# EAGLE library part ADS5204 (library kamiki)
Dual 10-Bit 40MSPS Low-Power Analog-to-Digital Converter
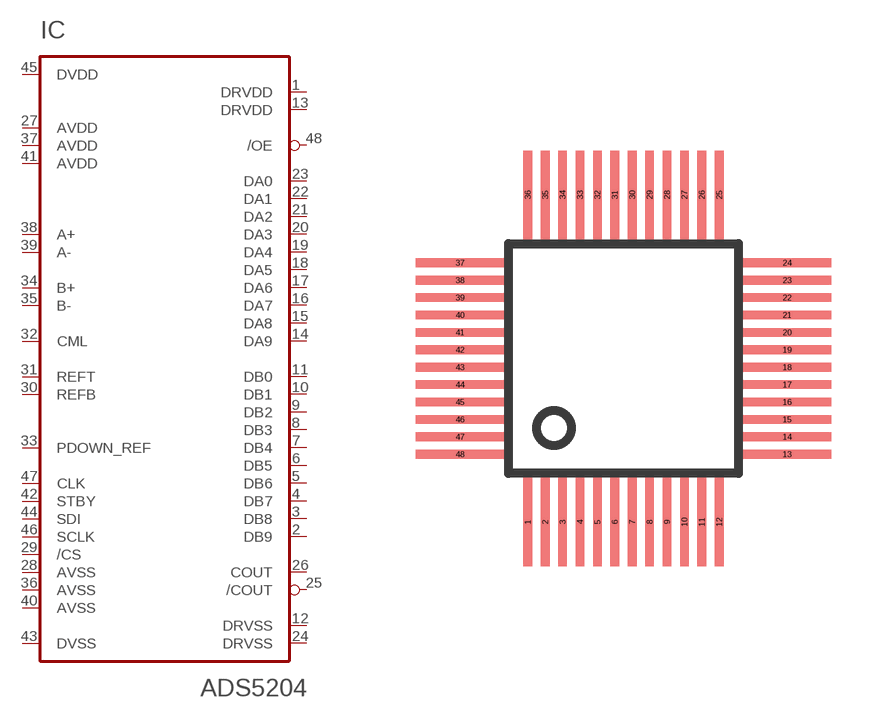
[diagram p10: symbol with the pads of TQFP48_7X7; footprint TQFP48_7X7]

Designator prefix IC

## ADS5204  [TQFP48_7X7]
1  DRVDD  pwr
2  DB9  hiz
3  DB8  hiz
4  DB7  hiz
5  DB6  hiz
6  DB5  hiz
7  DB4  hiz
8  DB3  hiz
9  DB2  hiz
10  DB1  hiz
11  DB0  hiz
12  DRVSS  pwr
13  DRVDD  pwr
14  DA9  hiz
15  DA8  hiz
16  DA7  hiz
17  DA6  hiz
18  DA5  hiz
19  DA4  hiz
20  DA3  hiz
21  DA2  hiz
22  DA1  hiz
23  DA0  hiz
24  DRVSS  pwr
25  /COUT  out
26  COUT  out
27  AVDD  pwr
28  AVSS  pwr
29  /CS  in
30  REFB  pas
31  REFT  pas
32  CML  out
33  PDOWN_REF  in
34  B+  in
35  B-  in
36  AVSS  pwr
37  AVDD  pwr
38  A+  in
39  A-  in
40  AVSS  pwr
41  AVDD  pwr
42  STBY  in
43  DVSS  pwr
44  SDI  in
45  DVDD  pwr
46  SCLK  in
47  CLK  in
48  /OE  in

## Footprint TQFP48_7X7 (pad centres in mm)
Thin Quad Flat Package from SMD-IPC.lbr SQFP48 7x7 modefied for OLIMEX.
smd 0.25 x 2.54: 1 -2.75,-4.7; 2 -2.25,-4.7; 3 -1.75,-4.7; 4 -1.25,-4.7; 5 -0.75,-4.7; 6 -0.25,-4.7; 7 0.25,-4.7; 8 0.75,-4.7; 9 1.25,-4.7; 10 1.75,-4.7; 11 2.25,-4.7; 12 2.75,-4.7; 25 2.75,4.7; 26 2.25,4.7; 27 1.75,4.7; 28 1.25,4.7; 29 0.75,4.7; 30 0.25,4.7; 31 -0.25,4.7; 32 -0.75,4.7; 33 -1.25,4.7; 34 -1.75,4.7; 35 -2.25,4.7; 36 -2.75,4.7
smd 2.54 x 0.25: 13 4.7,-2.75; 14 4.7,-2.25; 15 4.7,-1.75; 16 4.7,-1.25; 17 4.7,-0.75; 18 4.7,-0.25; 19 4.7,0.25; 20 4.7,0.75; 21 4.7,1.25; 22 4.7,1.75; 23 4.7,2.25; 24 4.7,2.75; 37 -4.7,2.75; 38 -4.7,2.25; 39 -4.7,1.75; 40 -4.7,1.25; 41 -4.7,0.75; 42 -4.7,0.25; 43 -4.7,-0.25; 44 -4.7,-0.75; 45 -4.7,-1.25; 46 -4.7,-1.75; 47 -4.7,-2.25; 48 -4.7,-2.75